# Altium integrated library Analog Devices Data Converters Analog-to-Digital Converters.IntLib: 2404 symbols (part 138 of 346)
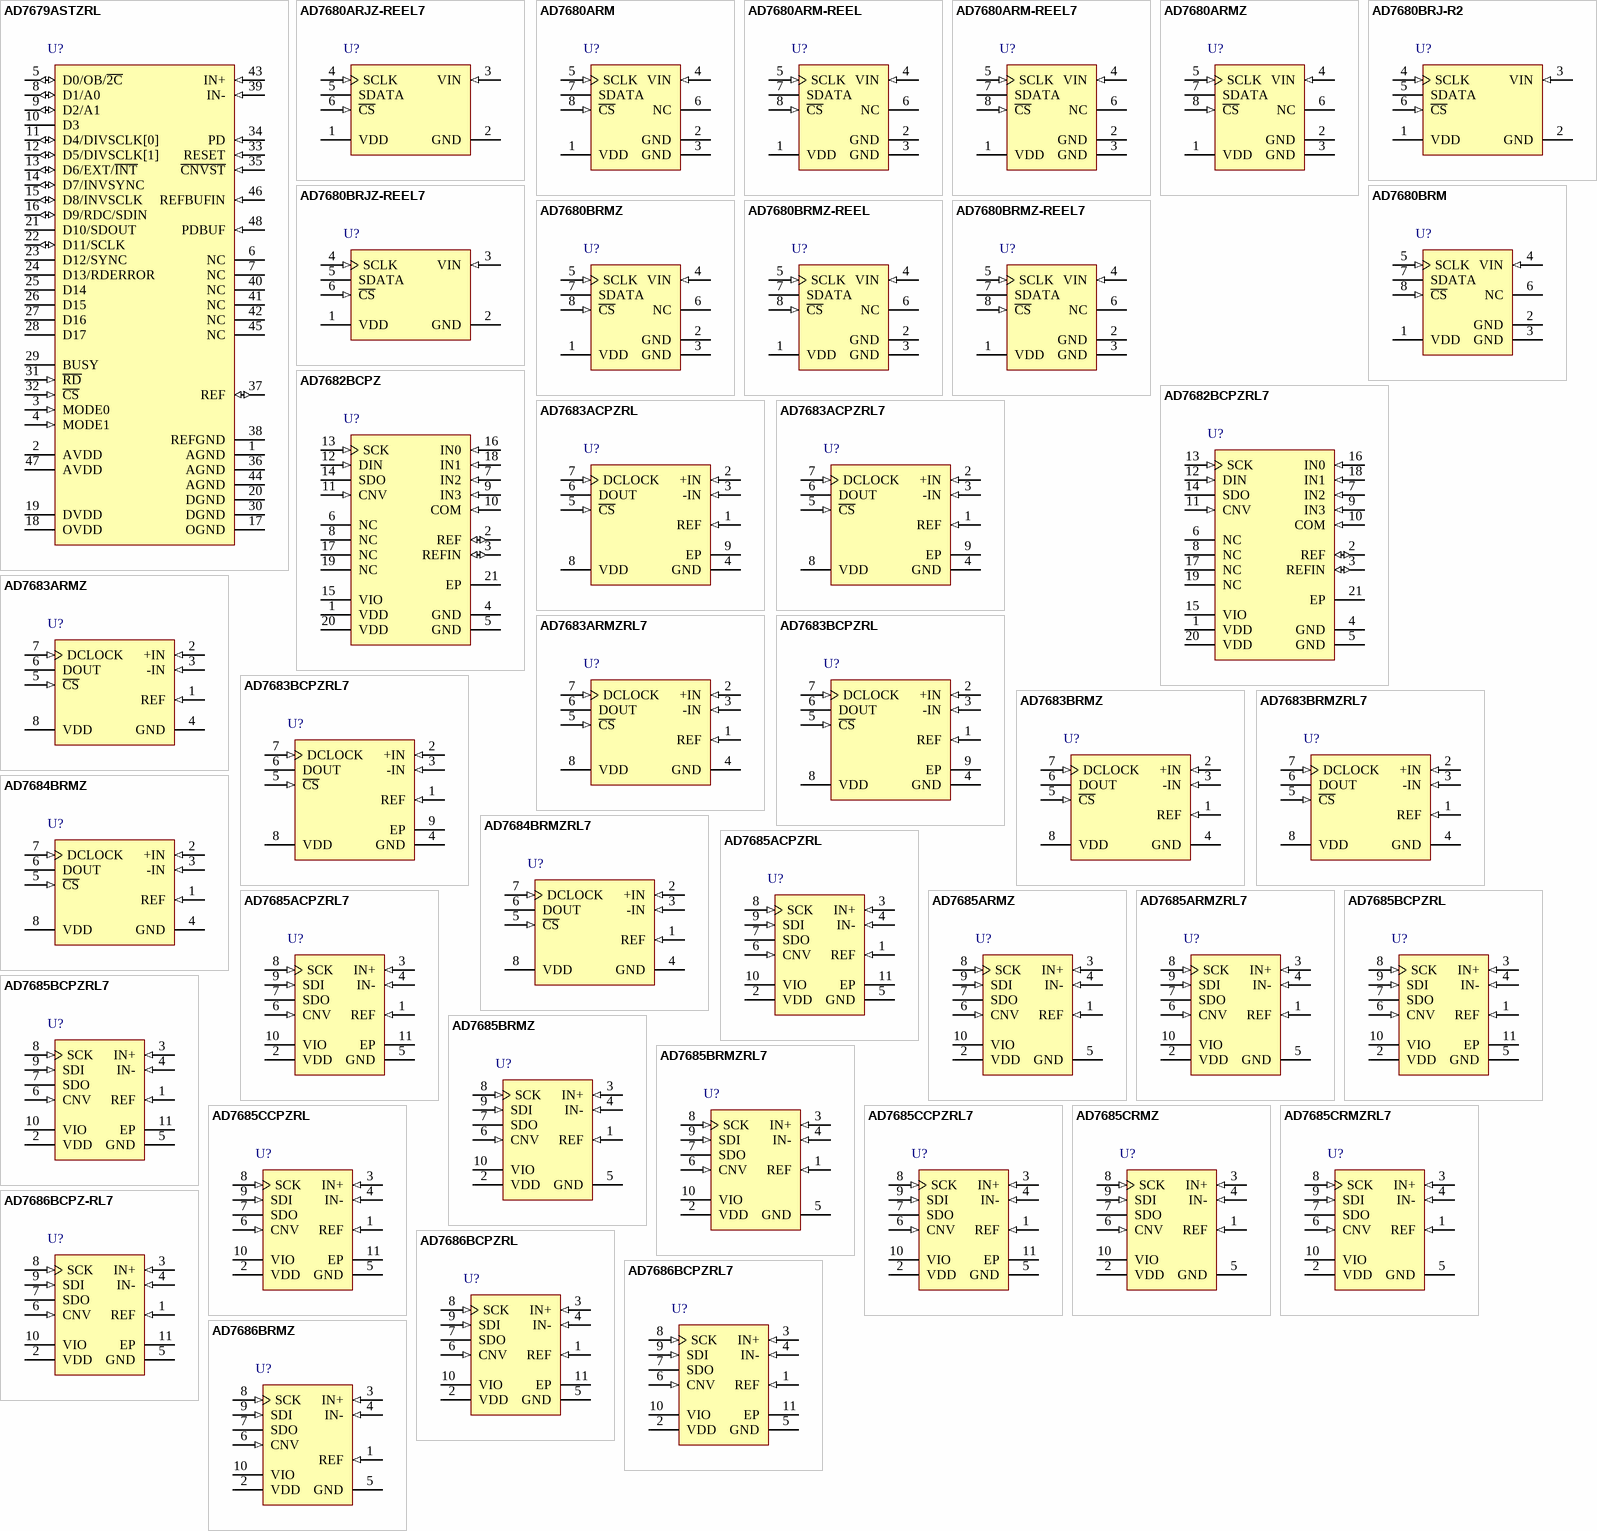
[diagram p331: symbols AD7679ASTZRL to AD7686BRMZ]

## AD7680ARJZ-REEL7
designator U?
Single 16-Bit Analog-to-Digital Converter with Serial, SPI Interface, 100KSPS, -40 to +85 degC, RJ-6, Pb-Free, Reel; Generic Part Number: AD7680; Manufacturer: Analog Devices; PartNumber: AD7680ARJZ-REEL7; Resolution (Bits): 16; Channels: 1; Throughput Rate (SPS): 100K; Interface: Ser, SPI; DatasheetVersion: Rev. A; PackageVersion: 121608-A; PackageReference: RJ-6; PackageDescription: 6-Lead Small Outline Transistor Package [SOT-23]; Supplier 1: Digi-Key; Supplier Part Number 1: AD7680ARJZ-REEL7TR-ND; Supplier 2: Digi-Key; Supplier Part Number 2: AD7680ARJZ-REEL7CT-ND; Supplier 3: Digi-Key; Supplier Part Number 3: AD7680ARJZ-REEL7DKR-ND; Supplier 4: Farnell; Supplier Part Number 4: 2314138; Supplier 5: Newark; Supplier Part Number 5: 59K5204; Supplier 6: Newark; Supplier Part Number 6: 67W3175; Supplier 7: Mouser; Supplier Part Number 7: 584-AD7680ARJZ-R7; RoHS: Y; Packing: Reel; Mounting Technology: Surface Mount; Code_JEDEC: MO-178-AB; ComponentLink1Description: Manufacturer URL; ComponentLink1URL: http://www.analog.com/en/index.html; ComponentLink2Description: Datasheet; ComponentLink2URL: http://www.analog.com/static/imported-files/data_sheets/AD7680.pdf; ComponentLink3Description: Package Specification; ComponentLink3URL: http://www.analog.com/static/imported-files/packages/PKG_PDF/SOT-23(RJ)/RJ_6.pdf; ComponentLink4Description: Product URL; ComponentLink4URL: http://www.analog.com/en/analog-to-digital-converters/ad-converters/ad7680/products/product.html
footprint RJ-6_N (SOT23, 6-Leads, Body 2.9x1.6mm, Pitch 0.95mm, Lead Span 2.8mm, IPC Medium Density)
footprint RJ-6_L (SOT23, 6-Leads, Body 2.9x1.6mm, Pitch 0.95mm, Lead Span 2.8mm, IPC High Density)
footprint RJ-6_M (SOT23, 6-Leads, Body 2.9x1.6mm, Pitch 0.95mm, Lead Span 2.8mm, IPC Low Density)
pins: 1 VDD (power) "Power Supply Input. The VDD range for the AD7680 is from 2.5 V to 5.5 V.", 2 GND (power) "Analog Ground. Ground reference point for all circuitry on the AD7680. All analog input signals should be referred to this GND voltage.", 3 VIN (in) "Analog Input. Single-ended analog input channel. The input range is 0 V to VDD.", 4 SCLK (in) "Serial Clock. Logic input. SCLK provides the serial clock for accessing data from this part. This clock input is also used as the clock source for the AD7680's conversion process.", 5 SDATA (hiz) "Data Out. Logic output. The conversion result from the AD7680 is provided on this output as a serial  data stream. The bits are clocked out on the falling edge of the SCLK input. The data stream from the AD7680 consists of (See Datasheet)", 6 ~{CS} (in) "Chip Select. Active low logic input. This input provides the dual function of initiating conversions on the AD7680 and framing the serial data transfer."

## AD7680ARM
designator U?
Single 16-Bit Analog-to-Digital Converter with Serial, SPI Interface, 100KSPS, -40 to +85 degC, RM-8, Tube; Generic Part Number: AD7680; Manufacturer: Analog Devices; PartNumber: AD7680ARM; Resolution (Bits): 16; Channels: 1; Throughput Rate (SPS): 100K; Interface: Ser, SPI; DatasheetVersion: Rev. A; PackageVersion: Aug-2005; PackageReference: RM-8; PackageDescription: 8-Lead Mini Small Outline Package [MSOP]; Supplier 1: Digi-Key; Supplier Part Number 1: AD7680ARM-ND; Supplier 2: Mouser; Supplier Part Number 2: 584-AD7680ARM; RoHS: N; Packing: Tube; Mounting Technology: Surface Mount; Code_JEDEC: MO-187-AA; ComponentLink1Description: Manufacturer URL; ComponentLink1URL: http://www.analog.com/en/index.html; ComponentLink2Description: Datasheet; ComponentLink2URL: http://www.analog.com/static/imported-files/data_sheets/AD7680.pdf; ComponentLink3Description: Package Specification; ComponentLink3URL: http://www.analog.com/static/imported-files/packages/PKG_PDF/MSOP%28RM%29/RM_8.pdf; ComponentLink4Description: Product URL; ComponentLink4URL: http://www.analog.com/en/analog-to-digital-converters/ad-converters/ad7680/products/product.html
footprint RM-8_N (TSOP, 8-Leads, Body 3x3mm, Pitch 0.65mm, IPC Medium Density)
footprint RM-8_L (TSOP, 8-Leads, Body 3x3mm, Pitch 0.65mm, IPC High Density)
footprint RM-8_M (TSOP, 8-Leads, Body 3x3mm, Pitch 0.65mm, IPC Low Density)
pins: 1 VDD (power) "Power Supply Input. The VDD range for the AD7680 is from 2.5 V to 5.5 V.", 2 GND (power) "Analog Ground. Ground reference point for all circuitry on the AD7680. All analog input signals should be referred to this GND voltage.", 3 GND (power) "Analog Ground. Ground reference point for all circuitry on the AD7680. All analog input signals should be referred to this GND voltage.", 4 VIN (in) "Analog Input. Single-ended analog input channel. The input range is 0 V to VDD", 5 SCLK (in) "Serial Clock. Logic input. SCLK provides the serial clock for accessing data from this part. This clock input is also used as the clock source for the AD7680's conversion process.", 6 NC "No Connect. This pin should be left unconnected.", 7 SDATA (hiz) "Data Out. Logic output. The conversion result from the AD7680 is provided on this output as a serial data stream. The bits are clocked out on the falling edge of the SCLK input. The data stream from the AD7680 consists of (See Datasheet)", 8 ~{CS} (in) "Chip Select. Active low logic input. This input provides the dual function of initiating conversions on the AD7680 and framing the serial data transfer."

## AD7680ARM-REEL
designator U?
Single 16-Bit Analog-to-Digital Converter with Serial, SPI Interface, 100KSPS, -40 to +85 degC, RM-8, Reel; Generic Part Number: AD7680; Manufacturer: Analog Devices; PartNumber: AD7680ARM-REEL; Resolution (Bits): 16; Channels: 1; Throughput Rate (SPS): 100K; Interface: Ser, SPI; DatasheetVersion: Rev. A; PackageVersion: Aug-2005; PackageReference: RM-8; PackageDescription: 8-Lead Mini Small Outline Package [MSOP]; Supplier 1: Digi-Key; Supplier Part Number 1: AD7680ARM-REEL-ND; Supplier 2: Mouser; Supplier Part Number 2: 584-AD7680ARM-R; RoHS: N; Packing: Reel; Mounting Technology: Surface Mount; Code_JEDEC: MO-187-AA; ComponentLink1Description: Manufacturer URL; ComponentLink1URL: http://www.analog.com/en/index.html; ComponentLink2Description: Datasheet; ComponentLink2URL: http://www.analog.com/static/imported-files/data_sheets/AD7680.pdf; ComponentLink3Description: Package Specification; ComponentLink3URL: http://www.analog.com/static/imported-files/packages/PKG_PDF/MSOP%28RM%29/RM_8.pdf; ComponentLink4Description: Product URL; ComponentLink4URL: http://www.analog.com/en/analog-to-digital-converters/ad-converters/ad7680/products/product.html
footprint RM-8_N (TSOP, 8-Leads, Body 3x3mm, Pitch 0.65mm, IPC Medium Density)
footprint RM-8_L (TSOP, 8-Leads, Body 3x3mm, Pitch 0.65mm, IPC High Density)
footprint RM-8_M (TSOP, 8-Leads, Body 3x3mm, Pitch 0.65mm, IPC Low Density)
pins: 1 VDD (power) "Power Supply Input. The VDD range for the AD7680 is from 2.5 V to 5.5 V.", 2 GND (power) "Analog Ground. Ground reference point for all circuitry on the AD7680. All analog input signals should be referred to this GND voltage.", 3 GND (power) "Analog Ground. Ground reference point for all circuitry on the AD7680. All analog input signals should be referred to this GND voltage.", 4 VIN (in) "Analog Input. Single-ended analog input channel. The input range is 0 V to VDD", 5 SCLK (in) "Serial Clock. Logic input. SCLK provides the serial clock for accessing data from this part. This clock input is also used as the clock source for the AD7680's conversion process.", 6 NC "No Connect. This pin should be left unconnected.", 7 SDATA (hiz) "Data Out. Logic output. The conversion result from the AD7680 is provided on this output as a serial data stream. The bits are clocked out on the falling edge of the SCLK input. The data stream from the AD7680 consists of (See Datasheet)", 8 ~{CS} (in) "Chip Select. Active low logic input. This input provides the dual function of initiating conversions on the AD7680 and framing the serial data transfer."